# Altium schematic symbol library SIM-Memory_Card Connectors.SchLib: 17 symbols
Pins are listed as number, name and electrical type; pins without a type are passive.

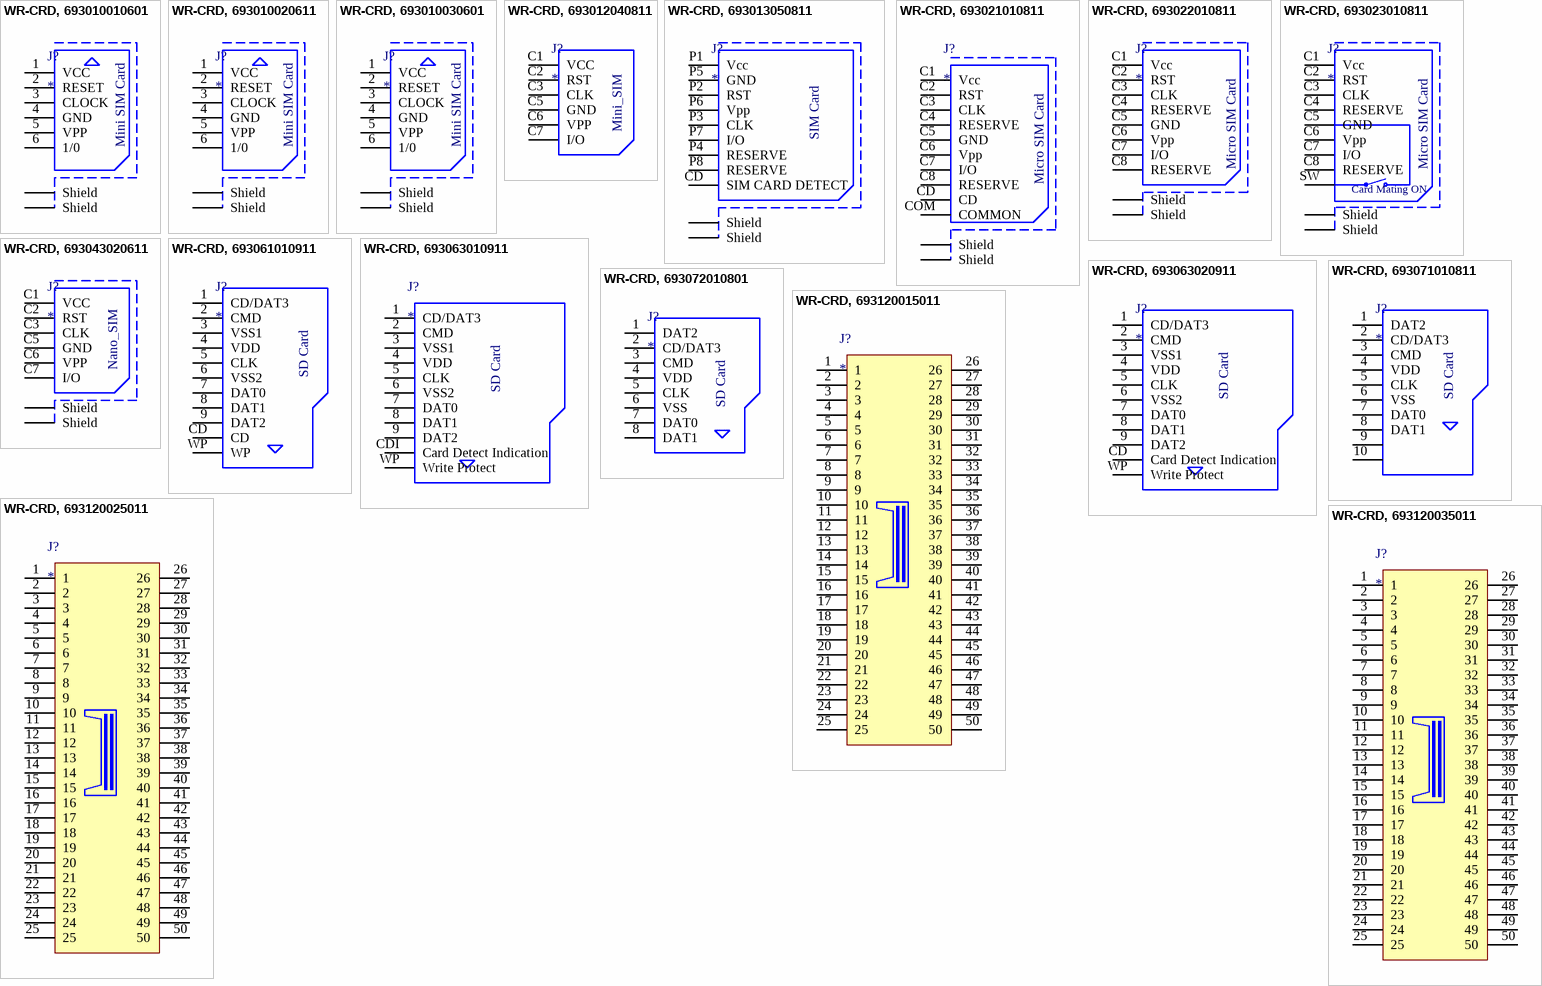
[diagram p0: symbols WR-CRD, 693010010601 to WR-CRD, 693120035011]

## WR-CRD, 693010010601
designator J?
WR-CRD Mini SIM_Standard Header; Manufacturer: Würth Elektronik eiSos GmbH; partNo: 693010010601; ComponentLink1 Description: Manufacturer; ComponentLink2 Description: Datasheet; NoPins: 6; ComponentLink1URL: http://www.we-online.de; ComponentLink2URL: http://katalog.we-online.de/em/datasheet/693010010601.pdf; Created by: Karrer Zheng; Created Date: 10/10/2014
footprint 693010010601
pins: 1 VCC, 2 RESET, 3 CLOCK, 4 GND, 5 VPP, 6 1/0, Z1 Shield, Z2 Shield
text: Mini SIM Card

## WR-CRD, 693010020611
designator J?
WR-CRD Mini SIM; Manufacturer: Würth Elektronik eiSos GmbH; partNo: 693010020611; ComponentLink1 Description: Manufacturer; ComponentLink2 Description: Datasheet; NoPins: 6; ComponentLink1URL: http://www.we-online.de; ComponentLink2URL: http://katalog.we-online.de/em/datasheet/693010020611.pdf; Created by: Karrer Zheng; Created Date: 10/10/2014
footprint 693010020611
pins: 1 VCC, 2 RESET, 3 CLOCK, 4 GND, 5 VPP, 6 1/0, Z1 Shield, Z2 Shield
text: Mini SIM Card

## WR-CRD, 693010030601
designator J?
WR-CRD Mini SIM; Manufacturer: Würth Elektronik eiSos GmbH; partNo: 693010030601; ComponentLink1 Description: Manufacturer; ComponentLink2 Description: Datasheet; NoPins: 6; ComponentLink1URL: http://www.we-online.de; ComponentLink2URL: http://katalog.we-online.de/em/datasheet/693010030601.pdf; Created by: Karrer Zheng; Created Date: 10/10/2014
footprint 693010030601
pins: 1 VCC, 2 RESET, 3 CLOCK, 4 GND, 5 VPP, 6 1/0, Z1 Shield, Z2 Shield
text: Mini SIM Card

## WR-CRD, 693012040811
designator J?
WR-CRD mini SIM_Hinge type_6 pins; Manufacturer: Würth Elektronik eiSos GmbH; partNo: 693012040811; ComponentLink1 Description: Manufacturer; ComponentLink2 Description: Datasheet; NoPins: 6; ComponentLink1URL: http://www.we-online.de; ComponentLink2URL: http://katalog.we-online.de/em/datasheet/693012040811.pdf; Created by: Karrer Zheng; Created Date: 10/10/2014
footprint 693012040811
pins: C1 VCC, C2 RST, C3 CLK, C5 GND, C6 VPP, C7 I/O
text: Mini_SIM

## WR-CRD, 693013050811
designator J?
WR-CRD Mega SIM_Push and Push_8 pins; Manufacturer: Würth Elektronik eiSos GmbH; partNo: 693013050811; ComponentLink1 Description: Manufacturer; ComponentLink2 Description: Datasheet; NoPins: 9; ComponentLink1URL: http://www.we-online.de; ComponentLink2URL: http://katalog.we-online.de/em/datasheet/693013050811.pdf; Created by: Karrer Zheng; Created Date: 10/10/2014
footprint 693013050811
pins: CD SIM CARD DETECT, P1 Vcc, P2 RST, P3 CLK, P4 RESERVE, P5 GND, P6 Vpp, P7 I/O, P8 RESERVE, Z1 Shield, Z2 Shield
text: SIM Card

## WR-CRD, 693021010811
designator J?
WR-CRD Micro SIM_Push and Push_8 pins; Manufacturer: Würth Elektronik eiSos GmbH; partNo: 693021010811; ComponentLink1 Description: Manufacturer; ComponentLink2 Description: Datasheet; NoPins: 10; ComponentLink1URL: http://www.we-online.de; ComponentLink2URL: http://katalog.we-online.de/em/datasheet/693021010811.pdf; Created by: Karrer Zheng; Created Date: 10/20/2014
footprint 693021010811
pins: C1 Vcc, C2 RST, C3 CLK, C4 RESERVE, C5 GND, C6 Vpp, C7 I/O, C8 RESERVE, CD, COM COMMON, Z1 Shield, Z2 Shield
text: Micro SIM Card

## WR-CRD, 693022010811
designator J?
WR-CRD Micro SIM_Hinge_8 pins; Manufacturer: Würth Elektronik eiSos GmbH; partNo: 693022010811; ComponentLink1 Description: Manufacturer; ComponentLink2 Description: Datasheet; NoPins: 8; ComponentLink1URL: http://www.we-online.de; ComponentLink2URL: http://katalog.we-online.de/em/datasheet/693022010811.pdf; Created by: Karrer Zheng; Created Date: 10/20/2014
footprint 693022010811
pins: C1 Vcc, C2 RST, C3 CLK, C4 RESERVE, C5 GND, C6 Vpp, C7 I/O, C8 RESERVE, Z1 Shield, Z2 Shield
text: Micro SIM Card

## WR-CRD, 693023010811
designator J?
WR-CRD Micro SIM_Push and Pull_8 pins; Manufacturer: Würth Elektronik eiSos GmbH; partNo: 693023010811; ComponentLink1 Description: Manufacturer; ComponentLink2 Description: Datasheet; NoPins: 9; ComponentLink1URL: http://www.we-online.de; ComponentLink2URL: http://katalog.we-online.de/em/datasheet/693023010811.pdf; Created by: Karrer Zheng; Created Date: 10/20/2014
footprint 693023010811
pins: C1 Vcc, C2 RST, C3 CLK, C4 RESERVE, C5 GND, C6 Vpp, C7 I/O, C8 RESERVE, SW, Z1 Shield, Z2 Shield
text: Micro SIM Card; Card Mating ON

## WR-CRD, 693043020611
designator J?
WR-CRD Nano SIM_Push and Pull_6 pins; Manufacturer: Würth Elektronik eiSos GmbH; partNo: 693043020611; ComponentLink1 Description: Manufacturer; ComponentLink2 Description: Datasheet; NoPins: 6; ComponentLink1URL: http://www.we-online.de; ComponentLink2URL: http://katalog.we-online.de/em/datasheet/693043020611.pdf; Created by: Karrer Zheng; Created Date: 10/20/2014
footprint 693043020611
pins: C1 VCC, C2 RST, C3 CLK, C5 GND, C6 VPP, C7 I/O, Z1 Shield, Z2 Shield
text: Nano_SIM

## WR-CRD, 693061010911
designator J?
WR-CRD SD_Push and Push; Manufacturer: Würth Elektronik eiSos GmbH; partNo: 693061010911; ComponentLink1 Description: Manufacturer; ComponentLink2 Description: Datasheet; NoPins: 11; ComponentLink1URL: http://www.we-online.de; ComponentLink2URL: http://katalog.we-online.de/em/datasheet/693061010911.pdf; Created by: Karrer Zheng; Created Date: 10/10/2014
footprint 693061010911 (WR-CRD SD_Push and Push_with card detection_9 pins)
pins: 1 CD/DAT3, 2 CMD, 3 VSS1, 4 VDD, 5 CLK, 6 VSS2, 7 DAT0, 8 DAT1, 9 DAT2, CD, WP
text: SD Card

## WR-CRD, 693063010911
designator J?
WR-CRD SD_Push and Pull; Manufacturer: Würth Elektronik eiSos GmbH; partNo: 693063010911; ComponentLink1 Description: Manufacturer; ComponentLink2 Description: Datasheet; NoPins: 11; ComponentLink1URL: http://www.we-online.de; ComponentLink2URL: http://katalog.we-online.de/em/datasheet/693063010911.pdf; Created by: Karrer Zheng; Created Date: 10/10/2014
footprint 693063010911
pins: 1 CD/DAT3, 2 CMD, 3 VSS1, 4 VDD, 5 CLK, 6 VSS2, 7 DAT0, 8 DAT1, 9 DAT2, CDI Card Detect Indication, WP Write Protect
text: SD Card

## WR-CRD, 693063020911
designator J?
WR-CRD SD_Push and Pull; Manufacturer: Würth Elektronik eiSos GmbH; partNo: 693063020911; ComponentLink1 Description: Manufacturer; ComponentLink2 Description: Datasheet; NoPins: 11; ComponentLink1URL: http://www.we-online.de; ComponentLink2URL: http://katalog.we-online.de/em/datasheet/693063020911.pdf; Created by: Karrer Zheng; Created Date: 10/10/2014
footprint 693063020911
pins: 1 CD/DAT3, 2 CMD, 3 VSS1, 4 VDD, 5 CLK, 6 VSS2, 7 DAT0, 8 DAT1, 9 DAT2, CD Card Detect Indication, WP Write Protect
text: SD Card

## WR-CRD, 693071010811
designator J?
WR-CRD Micro SD_Push and Push; Manufacturer: Würth Elektronik eiSos GmbH; partNo: 693071010811; ComponentLink1 Description: Manufacturer; ComponentLink2 Description: Datasheet; NoPins: 8; ComponentLink1URL: http://www.we-online.de; ComponentLink2URL: http://katalog.we-online.de/em/datasheet/693071010811.pdf; Created by: Karrer Zheng; Created Date: 10/10/2014
footprint 693071010811
pins: 1 DAT2, 2 CD/DAT3, 3 CMD, 4 VDD, 5 CLK, 6 VSS, 7 DAT0, 8 DAT1, 9, 10
text: SD Card

## WR-CRD, 693072010801
designator J?
WR-CRD Micro SD_Hinge; Manufacturer: Würth Elektronik eiSos GmbH; partNo: 693072010801; ComponentLink1 Description: Manufacturer; ComponentLink2 Description: Datasheet; NoPins: 8; ComponentLink1URL: http://www.we-online.de; ComponentLink2URL: http://katalog.we-online.de/em/datasheet/693072010801.pdf; Created by: Karrer Zheng; Created Date: 10/10/2014
footprint 693072010801
pins: 1 DAT2, 2 CD/DAT3, 3 CMD, 4 VDD, 5 CLK, 6 VSS, 7 DAT0, 8 DAT1
text: SD Card

## WR-CRD, 693120015011
designator J?
WR-Compact Flash_Header; Manufacturer: Würth Elektronik eiSos GmbH; partNo: 693120015011; ComponentLink1 Description: Manufacturer; ComponentLink2 Description: Datasheet; NoPins: 50; ComponentLink1URL: http://www.we-online.de; ComponentLink2URL: http://katalog.we-online.de/em/datasheet/693120015011.pdf; Created by: Karrer Zheng; Created Date: 10/10/2014
footprint 693120015011
pins: 1, 2, 3, 4, 5, 6, 7, 8, 9, 10, 11, 12, 13, 14, 15, 16, 17, 18, 19, 20, 21, 22, 23, 24, 25, 26, 27, 28, 29, 30, 31, 32, 33, 34, 35, 36, 37, 38, 39, 40, 41, 42, 43, 44, 45, 46, 47, 48, 49, 50

## WR-CRD, 693120025011
designator J?
WR-Compact Flash_Reverse Header; Manufacturer: Würth Elektronik eiSos GmbH; partNo: 693120025011; ComponentLink1 Description: Manufacturer; ComponentLink2 Description: Datasheet; NoPins: 50; ComponentLink1URL: http://www.we-online.de; ComponentLink2URL: http://katalog.we-online.de/em/datasheet/693120025011.pdf; Created by: Karrer Zheng; Created Date: 10/10/2014
footprint 693120025011
pins: 1, 2, 3, 4, 5, 6, 7, 8, 9, 10, 11, 12, 13, 14, 15, 16, 17, 18, 19, 20, 21, 22, 23, 24, 25, 26, 27, 28, 29, 30, 31, 32, 33, 34, 35, 36, 37, 38, 39, 40, 41, 42, 43, 44, 45, 46, 47, 48, 49, 50

## WR-CRD, 693120035011
designator J?
WR-Compact Flash_Shrouded; Manufacturer: Würth Elektronik eiSos GmbH; partNo: 693120035011; ComponentLink1 Description: Manufacturer; ComponentLink2 Description: Datasheet; NoPins: 50; ComponentLink1URL: http://www.we-online.de; ComponentLink2URL: http://katalog.we-online.de/em/datasheet/693120035011.pdf; Created by: Karrer Zheng; Created Date: 10/10/2014
footprint 693120035011
pins: 1, 2, 3, 4, 5, 6, 7, 8, 9, 10, 11, 12, 13, 14, 15, 16, 17, 18, 19, 20, 21, 22, 23, 24, 25, 26, 27, 28, 29, 30, 31, 32, 33, 34, 35, 36, 37, 38, 39, 40, 41, 42, 43, 44, 45, 46, 47, 48, 49, 50